# EAGLE library part 53398_06 (library Molex)
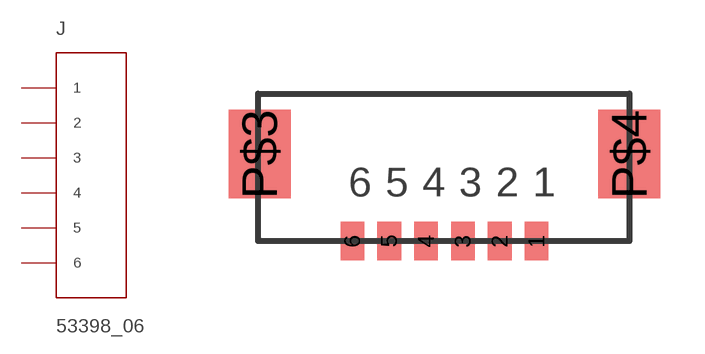
[diagram p1: symbol with the pads of 53398_06; footprint 53398_06]

Designator prefix J

## 53398_06  [53398_06]
1  1
2  2
3  3
4  4
5  5
6  6

## Footprint 53398_06 (pad centres in mm)
smd 0.8 x 1.3: 1 6.25,0; 2 5,0; 3 3.75,0; 4 2.5,0; 5 1.25,0; 6 0,0
smd 2.1 x 3: P$3 -3.15,2.95; P$4 9.4,2.95